# Altium integrated library JADEKU.IntLib: 12 symbols
Pins are listed as number, name and electrical type; pins without a type are passive.

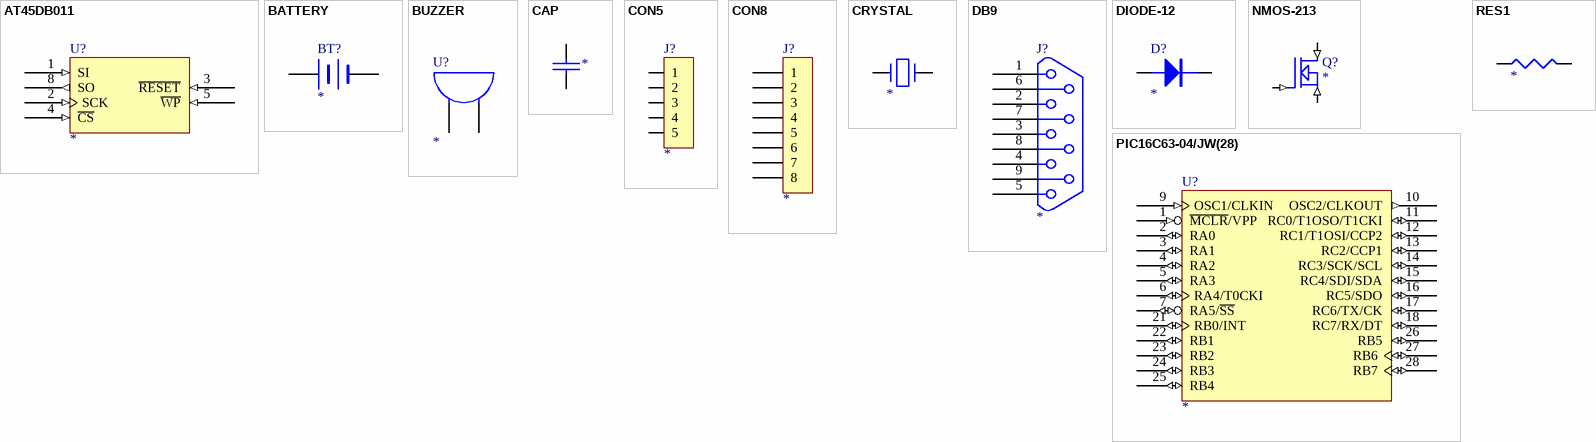
[diagram p0: symbols AT45DB011 to RES1]

## AT45DB011
designator U?
Serial Data Flash
footprint SO8
pins: 1 SI (in), 2 SCK (in), 3 ~{RESET} (in), 4 ~{CS} (in), 5 ~{WP} (in), 6 VCC (power) hidden to VCC, 7 GND hidden to GND, 8 SO (out)

## BATTERY
designator BT?
Battery
pins: 1 +, 2 -

## BUZZER
designator U?
Buzzer
pins: 1 A, 2 B

## CAP
designator ?
pins: 1, 2

## CON5
designator J?
pins: 1, 2, 3, 4, 5

## CON8
designator J?
Connector
pins: 1, 2, 3, 4, 5, 6, 7, 8

## CRYSTAL
designator ?
pins: 1, 2

## DB9
designator J?
footprint DB9
pins: 1, 2, 3, 4, 5, 6, 7, 8, 9

## DIODE-12
designator D?
footprint MELFAMLL34
pins: 1, 2

## NMOS-213
designator Q?
MOSFET SGD=213
footprint SOT-23
pins: 1 GATE (in), 2 SOURCE (in), 3 DRAIN (in)

## PIC16C63-04/JW(28)
designator U?
8-Bit CMOS Microcontrollers
footprint DIP28
footprint SOIC28
pins: 1 ~{MCLR}/VPP (in), 2 RA0 (io), 3 RA1 (io), 4 RA2 (io), 5 RA3 (io), 6 RA4/T0CKI (io), 7 RA5/~{SS} (io), 8 VSS (power) hidden to VSS, 9 OSC1/CLKIN (in), 10 OSC2/CLKOUT (out), 11 RC0/T1OSO/T1CKI (io), 12 RC1/T1OSI/CCP2 (io), 13 RC2/CCP1 (io), 14 RC3/SCK/SCL (io), 15 RC4/SDI/SDA (io), 16 RC5/SDO (io), 17 RC6/TX/CK (io), 18 RC7/RX/DT (io), 19 VSS (power) hidden to VSS, 20 VDD (power) hidden to VDD, 21 RB0/INT (io), 22 RB1 (io), 23 RB2 (io), 24 RB3 (io), 25 RB4 (io), 26 RB5 (io), 27 RB6 (io), 28 RB7 (io)

## RES1
designator ?
pins: 1, 2